# Altium footprint library SG__PCB_SMD_Inductors.PcbLib: 41 footprints (part 2 of 3)
Each footprint in its own frame and in the unit in brackets; x right, y up, seen from the top. Pads: shape width x height; smd on the part's side, far side on the other; paste and mask are expansions set on the pad; w line width, h text height; cw(c..) or ccw(c..) is an arc to the next point about the centre after c.
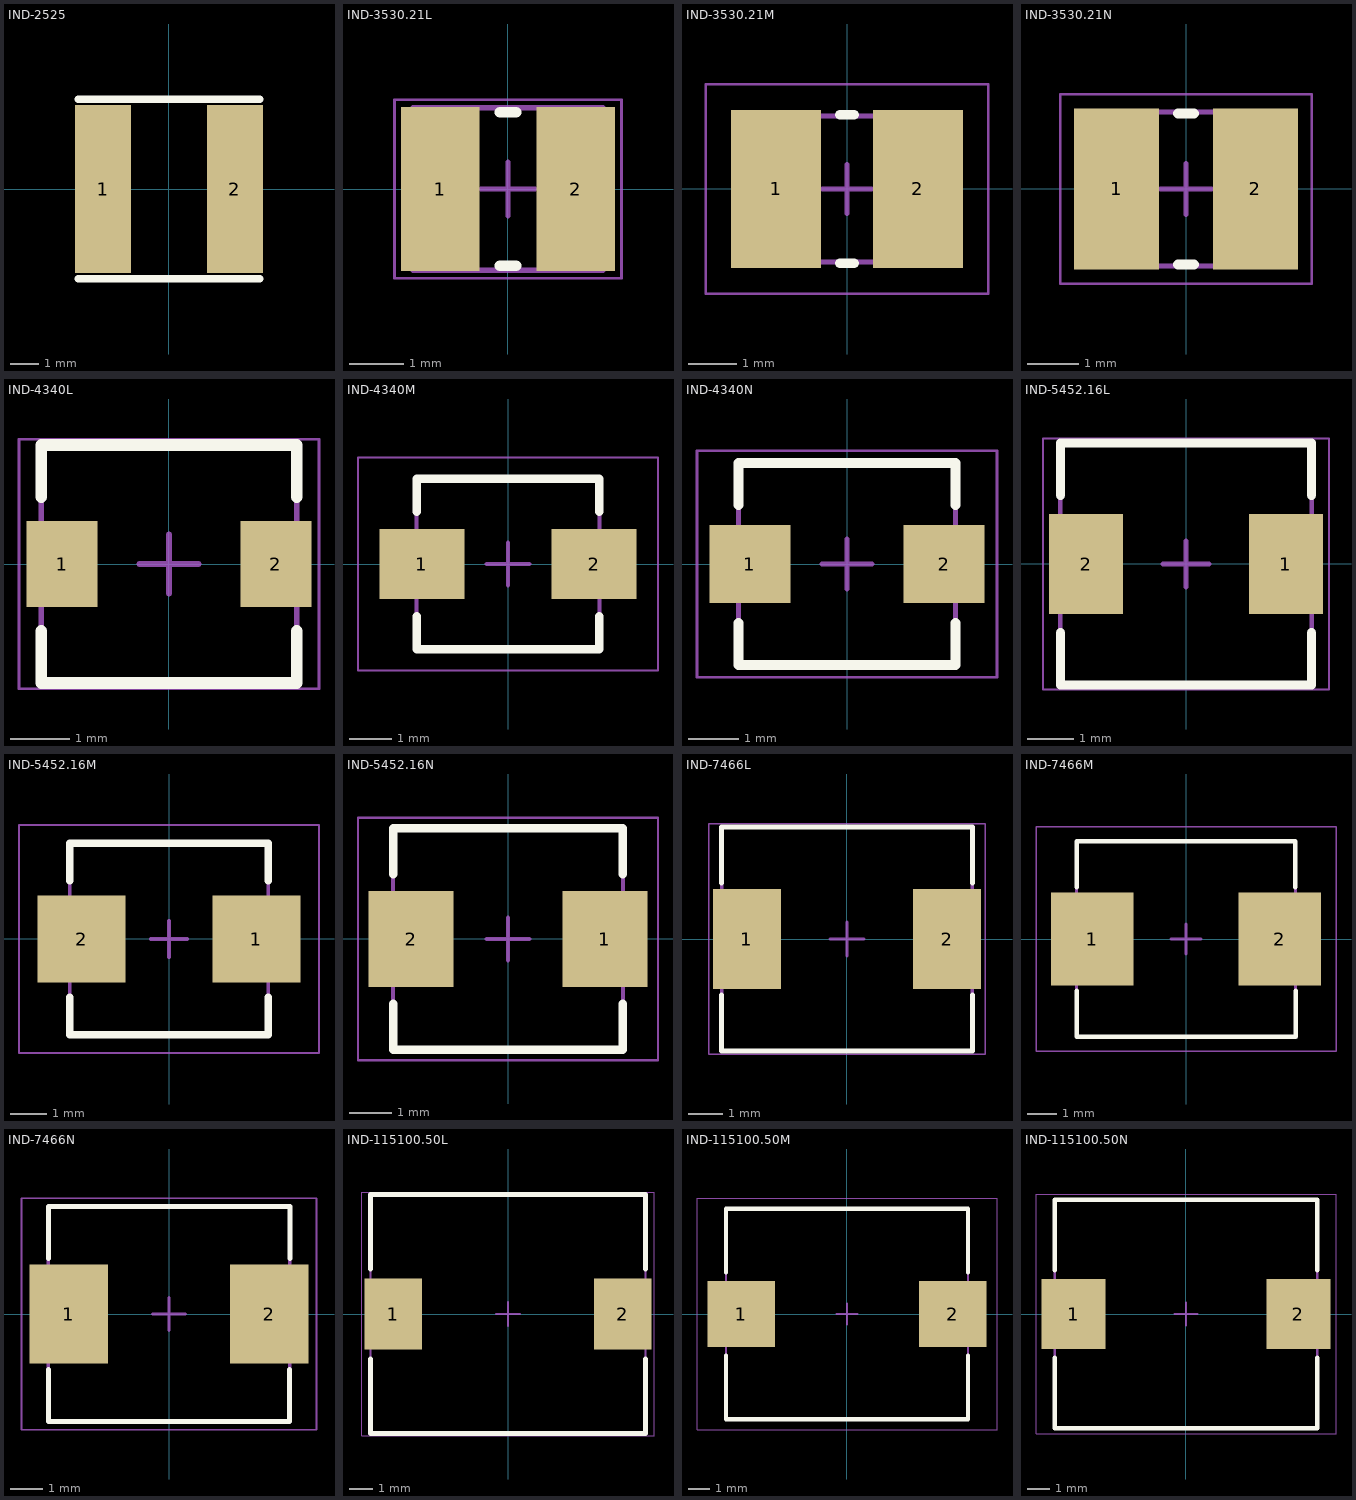
[diagram p1: the footprints below, top view; thin cyan lines are the x and y axes]

## IND-2525 [mm]
pads (2):
  rect 2x6 smd mask+0.05: 1(-2.35,0) 2(2.35,0)
Top Overlay:
  lines w0.254: -3.25,-3.2 3.25,-3.2 ; -3.25,3.2 3.25,3.2
3D body: height 5, standoff 0, extent -3.25,-3.2 3.25,3.2

## IND-3530.21L [mm] "Chip Inductor, 2-Leads, Body 3,50x3,00mm, IPC High Density"
height 2.1
pads (2):
  rect 1.45x3.04 smd: 1(-1.255,0) 2(1.255,0)
Top Overlay:
  lines w0.2: -0.15,-1.42 0.15,-1.42 ; -0.15,1.42 0.15,1.42
Top Assembly:
  lines w0.1: -1.75,-1.5 -1.75,1.5 1.75,1.5 1.75,-1.5 -1.75,-1.5
Top Courtyard:
  lines w0.05: -2.1,-1.65 -2.1,1.65 2.1,1.65 2.1,-1.65 -2.1,-1.65
  lines w0.1: -0.5,0 0.5,0 ; 0,-0.5 0,0.5
3D body "INDC3530X21L.step": height 2.1, standoff 0, extent -1.75,-1.5 1.75,1.5

## IND-3530.21M [mm] "Chip Inductor, 2-Leads, Body 3,50x3,00mm, IPC Low Density"
height 2.1
pads (2):
  rect 1.85x3.24 smd: 1(-1.455,0) 2(1.455,0)
Top Overlay:
  lines w0.2: -0.15,-1.52 0.15,-1.52 ; -0.15,1.52 0.15,1.52
Top Assembly:
  lines w0.1: -1.75,-1.5 -1.75,1.5 1.75,1.5 1.75,-1.5 -1.75,-1.5
Top Courtyard:
  lines w0.05: -2.9,-2.15 -2.9,2.15 2.9,2.15 2.9,-2.15 -2.9,-2.15
  lines w0.1: -0.5,0 0.5,0 ; 0,-0.5 0,0.5
3D body "INDC3530X21M.step": height 2.1, standoff 0, extent -1.75,-1.5 1.75,1.5

## IND-3530.21N [mm] "Chip Inductor, 2-Leads, Body 3,50x3,00mm, IPC Medium Density"
height 2.1
pads (2):
  rect 1.65x3.14 smd: 1(-1.355,0) 2(1.355,0)
Top Overlay:
  lines w0.2: -0.15,-1.47 0.15,-1.47 ; -0.15,1.47 0.15,1.47
Top Assembly:
  lines w0.1: -1.75,-1.5 -1.75,1.5 1.75,1.5 1.75,-1.5 -1.75,-1.5
Top Courtyard:
  lines w0.05: -2.45,-1.85 -2.45,1.85 2.45,1.85 2.45,-1.85 -2.45,-1.85
  lines w0.1: -0.5,0 0.5,0 ; 0,-0.5 0,0.5
3D body "INDC3530X21N.step": height 2.1, standoff 0, extent -1.75,-1.5 1.75,1.5

## IND-4340L [mm] "Molded Inductor, 2-Leads, Body 4,30x4,00mm, IPC High Density"
height 2
pads (2):
  rect 1.2x1.45 smd: 1(-1.8,0) 2(1.8,0)
Top Overlay:
  lines w0.2: -2.15,-1.125 -2.15,-2 2.15,-2 2.15,-1.125 ; -2.15,1.125 -2.15,2 2.15,2 2.15,1.125
Top Assembly:
  lines w0.1: -2.15,-2 2.15,-2 2.15,2 -2.15,2 -2.15,-2
Top Courtyard:
  lines w0.05: -2.525,-2.1 2.525,-2.1 2.525,2.1 -2.525,2.1 -2.525,-2.1
  lines w0.1: -0.5,0 0.5,0 ; 0,-0.5 0,0.5
3D body "INDM4340X20L.step": height 2, standoff 0, extent -2.37,-2 2.37,2

## IND-4340M [mm] "Molded Inductor, 2-Leads, Body 4,30x4,00mm, IPC Low Density"
height 2
pads (2):
  rect 2x1.65 smd: 1(-2.025,0) 2(2.025,0)
Top Overlay:
  lines w0.2: -2.15,-1.225 -2.15,-2 2.15,-2 2.15,-1.225 ; -2.15,1.225 -2.15,2 2.15,2 2.15,1.225
Top Assembly:
  lines w0.1: -2.15,-2 -2.15,2 2.15,2 2.15,-2 -2.15,-2
Top Courtyard:
  lines w0.05: -3.525,-2.5 3.525,-2.5 3.525,2.5 -3.525,2.5 -3.525,-2.5
  lines w0.1: -0.5,0 0.5,0 ; 0,-0.5 0,0.5
3D body "INDM4340X20M.step": height 2, standoff 0, extent -2.37,-2 2.37,2

## IND-4340N [mm] "Molded Inductor, 2-Leads, Body 4,30x4,00mm, IPC Medium Density"
height 2
pads (2):
  rect 1.6x1.55 smd: 1(-1.925,0) 2(1.925,0)
Top Overlay:
  lines w0.2: -2.15,-1.175 -2.15,-2 2.15,-2 2.15,-1.175 ; -2.15,1.175 -2.15,2 2.15,2 2.15,1.175
Top Assembly:
  lines w0.1: -2.15,-2 2.15,-2 2.15,2 -2.15,2 -2.15,-2
Top Courtyard:
  lines w0.05: -2.975,-2.25 -2.975,2.25 2.975,2.25 2.975,-2.25 -2.975,-2.25
  lines w0.1: -0.5,0 0.5,0 ; 0,-0.5 0,0.5
3D body "INDM4340X20N.step": height 2, standoff 0, extent -2.37,-2 2.37,2

## IND-5452.16L [mm] "Molded Inductor, 2-Leads, Body 5,40x5,20mm, IPC High Density"
height 1.6
pads (2):
  rect 1.6x2.15 smd: 1(2.15,0) 2(-2.15,0)
Top Overlay:
  lines w0.2: -2.7,-1.475 -2.7,-2.6 2.7,-2.6 2.7,-1.475 ; -2.7,1.475 -2.7,2.6 2.7,2.6 2.7,1.475
Top Assembly:
  lines w0.1: -2.7,-2.6 2.7,-2.6 2.7,2.6 -2.7,2.6 -2.7,-2.6
Top Courtyard:
  lines w0.05: -3.075,-2.7 3.075,-2.7 3.075,2.7 -3.075,2.7 -3.075,-2.7
  lines w0.1: -0.5,0 0.5,0 ; 0,-0.5 0,0.5
3D body "INDM5452X16L.step": height 1.6, standoff 0, extent -2.92,-2.6 2.92,2.6

## IND-5452.16M [mm] "Molded Inductor, 2-Leads, Body 5,40x5,20mm, IPC Low Density"
height 1.6
pads (2):
  rect 2.4x2.35 smd: 1(2.375,0) 2(-2.375,0)
Top Overlay:
  lines w0.2: -2.7,-1.575 -2.7,-2.6 2.7,-2.6 2.7,-1.575 ; -2.7,1.575 -2.7,2.6 2.7,2.6 2.7,1.575
Top Assembly:
  lines w0.1: -2.7,-2.6 -2.7,2.6 2.7,2.6 2.7,-2.6 -2.7,-2.6
Top Courtyard:
  lines w0.05: -4.075,-3.1 -4.075,3.1 4.075,3.1 4.075,-3.1 -4.075,-3.1
  lines w0.1: -0.5,0 0.5,0 ; 0,-0.5 0,0.5
3D body "INDM5452X16M.step": height 1.6, standoff 0, extent -2.92,-2.6 2.92,2.6

## IND-5452.16N [mm] "Molded Inductor, 2-Leads, Body 5,40x5,20mm, IPC Medium Density"
height 1.6
pads (2):
  rect 2x2.25 smd: 1(2.275,0) 2(-2.275,0)
Top Overlay:
  lines w0.2: -2.7,-1.525 -2.7,-2.6 2.7,-2.6 2.7,-1.525 ; -2.7,1.525 -2.7,2.6 2.7,2.6 2.7,1.525
Top Assembly:
  lines w0.1: -2.7,-2.6 -2.7,2.6 2.7,2.6 2.7,-2.6 -2.7,-2.6
Top Courtyard:
  lines w0.05: -3.525,-2.85 -3.525,2.85 3.525,2.85 3.525,-2.85 -3.525,-2.85
  lines w0.1: -0.5,0 0.5,0 ; 0,-0.5 0,0.5
3D body "INDM5452X16N.step": height 1.6, standoff 0, extent -2.92,-2.6 2.92,2.6

## IND-7466L [mm] "Molded Inductor, 2-Leads, Body 7,40x6,60mm, IPC High Density"
height 3
pads (2):
  rect 2x2.95 smd: 1(-2.95,0) 2(2.95,0)
Top Overlay:
  lines w0.152: -3.7,-1.651 -3.7,-3.3 3.7,-3.3 3.7,-1.651 ; -3.7,1.651 -3.7,3.3 3.7,3.3 3.7,1.651
Top Assembly:
  lines w0.1: -3.7,-3.3 -3.7,3.3 3.7,3.3 3.7,-3.3 -3.7,-3.3
Top Courtyard:
  lines w0.05: -4.075,-3.4 -4.075,3.4 4.075,3.4 4.075,-3.4 -4.075,-3.4
  lines w0.1: -0.5,0 0.5,0 ; 0,-0.5 0,0.5
3D body "INDM7466X30L.step": height 3, standoff 0, extent -3.92,-3.3 3.92,3.3

## IND-7466M [mm] "Molded Inductor, 2-Leads, Body 7,40x6,60mm, IPC Low Density"
height 3
pads (2):
  rect 2.8x3.15 smd: 1(-3.175,0) 2(3.175,0)
Top Overlay:
  lines w0.152: -3.7,-1.753 -3.7,-3.3 3.708,-3.3 3.708,-1.753 ; -3.7,1.753 -3.7,3.3 3.7,3.3 3.7,1.753
Top Assembly:
  lines w0.1: -3.7,-3.3 -3.7,3.3 3.7,3.3 3.7,-3.3 -3.7,-3.3
Top Courtyard:
  lines w0.05: -5.075,-3.8 -5.075,3.8 5.075,3.8 5.075,-3.8 -5.075,-3.8
  lines w0.1: -0.5,0 0.5,0 ; 0,-0.5 0,0.5
3D body "INDM7466X30M.step": height 3, standoff 0, extent -3.92,-3.3 3.92,3.3

## IND-7466N [mm] "Molded Inductor, 2-Leads, Body 7,40x6,60mm, IPC Medium Density"
height 3
pads (2):
  rect 2.4x3.05 smd: 1(-3.075,0) 2(3.075,0)
Top Overlay:
  lines w0.152: -3.7,-1.702 -3.7,-3.3 3.7,-3.3 3.7,-1.702 ; -3.7,1.702 -3.7,3.3 3.708,3.3 3.708,1.702
Top Assembly:
  lines w0.1: -3.7,-3.3 3.7,-3.3 3.7,3.3 -3.7,3.3 -3.7,-3.3
Top Courtyard:
  lines w0.05: -4.525,-3.55 4.525,-3.55 4.525,3.55 -4.525,3.55 -4.525,-3.55
  lines w0.1: -0.5,0 0.5,0 ; 0,-0.5 0,0.5
3D body "INDM7466X30N.step": height 3, standoff 0, extent -3.92,-3.3 3.92,3.3

## IND-115100.50L [mm] "Molded Inductor, 2-Leads, Body 11,50x10,00mm, IPC High Density"
height 5
pads (2):
  rect 2.4x2.95 smd: 1(-4.8,0) 2(4.8,0)
Top Overlay:
  lines w0.2: -5.75,-1.875 -5.75,-5 5.75,-5 5.75,-1.875 ; -5.75,1.875 -5.75,5 5.75,5 5.75,1.875
Top Assembly:
  lines w0.1: -5.75,-5 -5.75,5 5.75,5 5.75,-5 -5.75,-5
Top Courtyard:
  lines w0.05: -6.125,-5.1 -6.125,5.1 6.125,5.1 6.125,-5.1 -6.125,-5.1
  lines w0.1: -0.5,0 0.5,0 ; 0,-0.5 0,0.5
3D body "INDM115100X50L.step": height 5, standoff 0, extent -5.97,-5 5.97,5

## IND-115100.50M [mm] "Molded Inductor, 2-Leads, Body 11,50x10,00mm, IPC Low Density"
height 5
pads (2):
  rect 3.2x3.15 smd: 1(-5.025,0) 2(5.025,0)
Top Overlay:
  lines w0.2: -5.75,-1.975 -5.75,-5 5.75,-5 5.75,-1.975 ; -5.75,1.975 -5.75,5 5.75,5 5.75,1.975
Top Assembly:
  lines w0.1: -5.75,-5 5.75,-5 5.75,5 -5.75,5 -5.75,-5
Top Courtyard:
  lines w0.05: -7.125,-5.5 7.125,-5.5 7.125,5.5 -7.125,5.5 -7.125,-5.5
  lines w0.1: -0.5,0 0.5,0 ; 0,-0.5 0,0.5
3D body "INDM115100X50M.step": height 5, standoff 0, extent -5.97,-5 5.97,5

## IND-115100.50N [mm] "Molded Inductor, 2-Leads, Body 11,50x10,00mm, IPC Medium Density"
height 5
pads (2):
  rect 2.8x3.05 smd: 1(-4.925,0) 2(4.925,0)
Top Overlay:
  lines w0.2: -5.75,-1.925 -5.75,-5 5.75,-5 5.75,-1.925 ; -5.75,1.925 -5.75,5 5.75,5 5.75,1.925
Top Assembly:
  lines w0.1: -5.75,-5 5.75,-5 5.75,5 -5.75,5 -5.75,-5
Top Courtyard:
  lines w0.05: -6.575,-5.25 6.575,-5.25 6.575,5.25 -6.575,5.25 -6.575,-5.25
  lines w0.1: -0.5,0 0.5,0 ; 0,-0.5 0,0.5
3D body "INDM115100X50N.step": height 5, standoff 0, extent -5.97,-5 5.97,5